# Altium footprint library HSBNE-Vend.PcbLib: 36 footprints (part 2 of 3)
Each footprint in its own frame and in the unit in brackets; x right, y up, seen from the top. Pads: shape width x height; smd on the part's side, far side on the other; paste and mask are expansions set on the pad; w line width, h text height; cw(c..) or ccw(c..) is an arc to the next point about the centre after c.
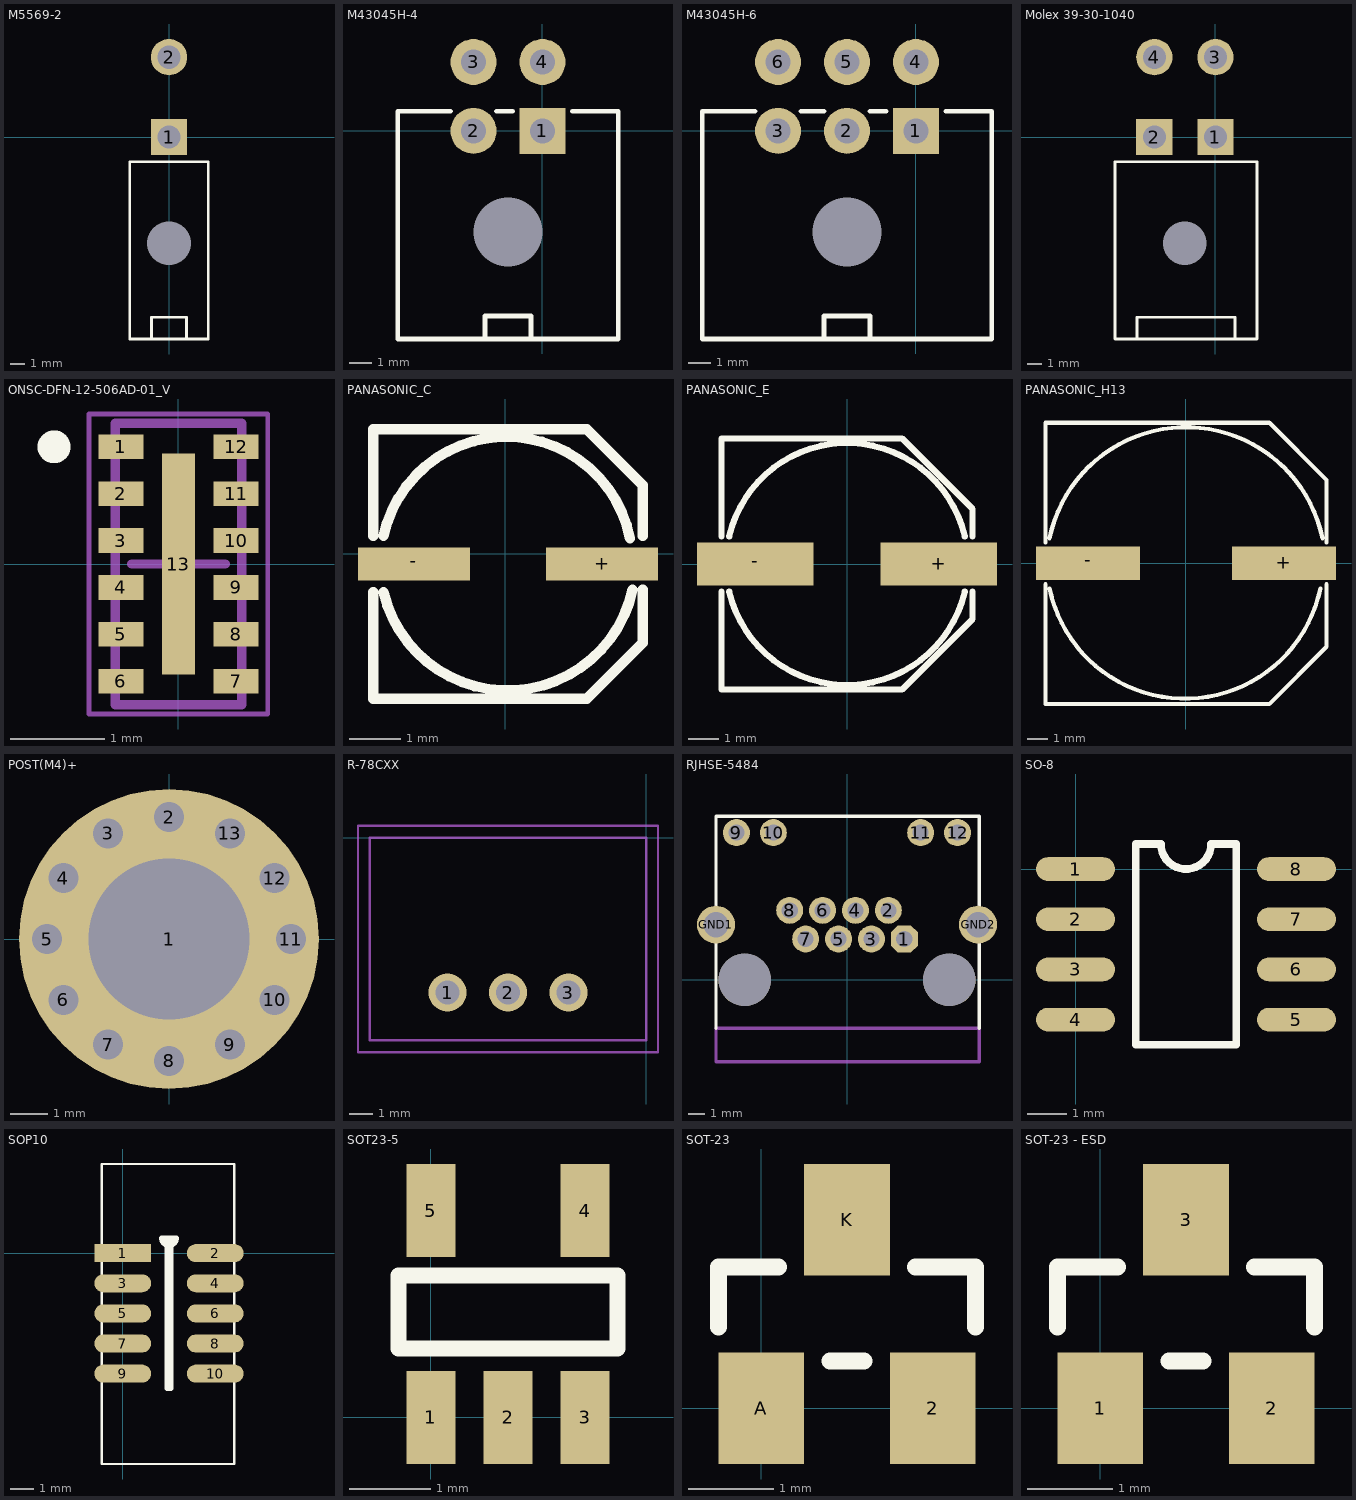
[diagram p1: the footprints below, top view; thin cyan lines are the x and y axes]

## M5569-2 [mm]
pads (3):
  rect 2.5x2.5 hole 1.6: 1(0,0)
  round 2.5 hole 1.6: 2(0,5.5)
  round 0 hole 3 unplated: A(0,-7.3)
Top Overlay:
  lines w0.2: -1.2,-13.9 -1.2,-12.4 1.2,-12.4 1.2,-13.9 ; -2.7,-13.9 -2.7,-1.7 2.7,-1.7 2.7,-13.9 -2.7,-13.9
3D body "039301020.stp": height 11.4, standoff -3.6, extent -2.72,-13.907 3.08,6.028

## M43045H-4 [mm]
height 1
pads (5):
  rect 2x2 hole 1.1: 1(0,0)
  round 2 hole 1.1: 2(-3,0) 3(-3,3) 4(0,3)
  round 0 hole 3 unplated: 5(-1.5,-4.4)
Top Overlay:
  lines w0.2: -4,0.85 -6.3,0.85 -6.3,-9.05 3.3,-9.05 3.3,0.85 1.3,0.85 ; -2.5,-9.05 -2.5,-8.05 -0.5,-8.05 -0.5,-9.05 ; -2,0.85 -1.3,0.85
3D body "430450400.stp": height 8.83, standoff -3.12, extent -6.6,-8.9 3.55,3.3

## M43045H-6 [mm]
pads (7):
  rect 2x2 hole 1.1: 1(0,0)
  round 2 hole 1.1: 2(-3,0) 3(-6,0) 4(0,3) 5(-3,3) 6(-6,3)
  round 0 hole 3 unplated: 7(-3,-4.4)
Top Overlay:
  lines w0.2: -7,0.85 -9.3,0.85 -9.3,-9.05 3.3,-9.05 3.3,0.85 1.3,0.85 ; -5,0.85 -4,0.85 ; -4,-9.05 -4,-8.05 -2,-8.05 -2,-9.05 ; -2,0.85 -1.3,0.85
3D body "430450600.stp": height 8.83, standoff -3.12, extent -9.575,-8.95 3.575,3.25

## Molex 39-30-1040 [mm]
pads (5):
  rect 2.5x2.5 hole 1.6: 1(0,0) 2(-4.2,0)
  round 2.5 hole 1.6: 3(0,5.5) 4(-4.2,5.5)
  round 0 hole 3 unplated: A(-2.1,-7.3)
Top Overlay:
  lines w0.2: -5.4,-13.9 -5.4,-12.4 -3,-12.4 1.351,-12.4 1.351,-13.9 ; -2.549,-13.9 2.851,-13.9 2.851,-1.7 -2.549,-1.7 ; -1.5,-13.9 -6.9,-13.9 -6.9,-1.7 -1.5,-1.7
3D body "039301040.stp": height 11.4, standoff -3.6, extent -6.961,-13.904 3.039,6.03

## ONSC-DFN-12-506AD-01_V [mm] "SON, 12-Leads, Body 3x1.35mm, Pitch 0.5mm, Thermal Pad 2.352x0.351mm"
height 1
pads (13):
  rect 0.479x0.265 smd mask+0.05: 1(-0.614,1.25) 2(-0.614,0.75) 3(-0.614,0.25) 4(-0.614,-0.25) 5(-0.614,-0.75) 6(-0.614,-1.25) 7(0.614,-1.25) 8(0.614,-0.75) 9(0.614,-0.25) 10(0.614,0.25) 11(0.614,0.75) 12(0.614,1.25)
  rect 0.351x2.352 smd mask+0.05: 13(0,0)
Top Overlay:
  circle w0.25: c-1.328,1.25 r0.05
Mechanical 13:
  lines w0.1: -0.675,-1.5 0.675,-1.5 0.675,1.5 -0.675,1.5 -0.675,-1.5
Mechanical 15:
  lines w0.05: -0.954,-1.6 0.954,-1.6 0.954,1.6 -0.954,1.6 -0.954,-1.6
  lines w0.1: -0.5,0 0.5,0 ; 0,-0.5 0,0.5
3D body: height 1, standoff 0, extent -0.675,-1.5 0.675,1.5

## PANASONIC_C [mm]
pads (2):
  rect 2.2x0.65 smd: +(1.9,-0.2) -(-1.8,-0.2)
Top Overlay:
  lines w0.102: -2.6,-2.85 1.6,-2.85 2.7,-1.75 ; -2.6,2.45 1.6,2.45 2.7,1.35
  lines w0.203: -2.6,-0.75 -2.6,-2.85 1.6,-2.85 2.7,-1.75 2.7,-0.7 ; -2.6,0.35 -2.6,2.45 1.6,2.45 2.7,1.35 2.7,0.35 ; -2.4,-0.75 ccw(c0.044,-0.175) 2.5,-0.7 ; -2.4,0.35 cw(c0.02,-0.175) 2.45,0.3
3D body: height 5.4, standoff 0, extent -2.475,-2.724 2.525,2.274
3D body: height 1, standoff 0, extent -2.625,-2.875 2.75,2.5

## PANASONIC_E [mm]
pads (2):
  rect 3.8x1.4 smd: +(3,0) -(-3,0)
Top Overlay:
  lines w0.102: -4.1,-4.1 1.8,-4.1 4.1,-1.8 ; -4.1,4.1 1.8,4.1 4.1,1.8
  lines w0.203: -4.1,-0.9 -4.1,-4.1 1.8,-4.1 4.1,-1.8 4.1,-0.9 ; -4.1,0.9 -4.1,4.1 1.8,4.1 4.1,1.8 4.1,0.9 ; -3.85,-0.9 ccw(c0,0) 3.85,-0.9 ; -3.85,0.9 cw(c0,0) 3.85,0.9
3D body: height 1, standoff 0, extent -4.125,-4.125 4.15,4.15
3D body: height 6.2, standoff 0, extent -4.025,-3.999 3.975,3.999

## PANASONIC_H13 [mm]
pads (2):
  rect 5x1.6 smd: +(4.7,0) -(-4.7,0)
Top Overlay:
  lines w0.102: -6.75,-6.75 4,-6.75 6.75,-4 ; -6.75,6.75 4,6.75 6.75,4
  lines w0.203: -6.75,-1 -6.75,-6.75 4,-6.75 6.75,-4 6.75,-1 ; -6.75,1 -6.75,6.75 4,6.75 6.75,4 6.75,1 ; -6.55,-1.2 ccw(c-0.05,0.14) 6.45,-1.2 ; -6.55,1.2 cw(c0,-0.151) 6.55,1.2
3D body: height 1, standoff 0, extent -6.75,-6.75 6.75,6.75
3D body: height 13.5, standoff 0, extent -6.375,-6.223 6.125,6.274

## POST(M4)+ [mm]
pads (13):
  round 8 hole 4.3: 1(0,0)
  round 0.8 hole 0.8: 2(0,3.25) 3(-1.625,2.815) 4(-2.815,1.625) 5(-3.25,0) 6(-2.815,-1.625) 7(-1.625,-2.815) 8(0,-3.25) 9(1.625,-2.815) 10(2.815,-1.625) 11(3.25,0) 12(2.815,1.625) 13(1.625,2.815)

## R-78CXX [mm] "CONV DC/DC 1A 5V OUT SIP VERT"
height 10.4
pads (3):
  round 1.6 hole 1: 1(-8.34,-6.5) 2(-5.8,-6.5) 3(-3.26,-6.5)
Mechanical 13:
  lines w0.1: -11.6,-8.5 -11.6,0 0,0 0,-8.5 -11.6,-8.5
Mechanical 15:
  lines w0.1: -12.1,-9 -12.1,0.5 0.5,0.5 0.5,-9 -12.1,-9
3D body: height 13, standoff 0, extent -11.6,-8.5 0,0

## RJHSE-5484 [mm]
pads (16):
  oct 1.676x1.676 hole 1: 1(3.555,2.54)
  round 1.676 hole 1: 2(2.565,4.32) 3(1.515,2.54) 4(0.525,4.32) 5(-0.525,2.54) 6(-1.515,4.32) 7(-2.565,2.54) 8(-3.555,4.32) 9(-6.86,9.14) 10(-4.57,9.14) 11(4.57,9.14) 12(6.86,9.14)
  round 2.355 hole 1.57: GND1(-8.13,3.43) GND2(8.13,3.43)
  round 3.25 hole 3.25 unplated: ""(-6.35,0) ""(6.35,0)
Top Overlay:
  lines w0.203: -8.13,-3 -8.13,10.16 8.2,10.16 8.2,-3
Mechanical 2:
  lines w0.203: -8.13,-5.08 8.2,-5.08 8.2,-3 -8.13,-3 -8.13,-5.08
3D body "User Library-User Library-Rj45-1.STEP": height 14.75, standoff -3.68, extent -8.355,-5.961 8.355,10.289

## SO-8 [mm]
pads (8):
  oval 2x0.6 smd: 1(0,0) 2(0,-1.27) 3(0,-2.54) 4(0,-3.81) 5(5.588,-3.81) 6(5.588,-2.54) 7(5.588,-1.27) 8(5.588,0)
Top Overlay:
  lines w0.2: 1.524,-4.445 4.064,-4.445 4.064,0.635 3.429,0.635 cw(c2.794,0.635) 2.159,0.635 1.524,0.635 1.524,-4.445
3D body "CircuitWorks-SO-8.step": height 1.45, standoff 0, extent -0.095,-4.318 5.683,0.584

## SOP10 [mm]
pads (10):
  rect 2.4x0.76 smd: 1(0,0)
  oval 2.4x0.76 smd: 2(3.9,0) 3(0,-1.27) 4(3.9,-1.27) 5(0,-2.54) 6(3.9,-2.54) 7(0,-3.81) 8(3.9,-3.81) 9(0,-5.08) 10(3.9,-5.08)
Top Overlay:
  lines w0.1: -0.889,-8.89 4.699,-8.89 4.699,3.76 -0.889,3.76 -0.889,-8.89
  lines w0.2: 1.632,0.635 ccw(c1.95,0.635) 2.267,0.635 1.865,0.635 1.865,-5.715 2.035,-5.715 2.035,0.635 1.632,0.635
3D body "Samtec-TFM-105-02-X-D.STEP": height 5.59, standoff -0.15, extent -1.143,-7.239 4.826,2.286

## SOT23-5 [mm]
pads (5):
  rect 0.6x1.15 smd: 1(0,0) 2(0.95,0) 3(1.9,0) 4(1.9,2.55) 5(0,2.55)
Top Overlay:
  lines w0.2: -0.4,0.85 2.3,0.85 2.3,1.75 -0.4,1.75 -0.4,0.85

## SOT-23 [mm]
pads (3):
  rect 1x1.3 smd: 2(2,0) A(0,0) K(1,2.2)
Top Overlay:
  lines w0.2: -0.5,0.95 -0.5,1.65 0.2,1.65 ; 0.8,0.55 1.2,0.55 ; 1.8,1.65 2.5,1.65 2.5,0.95

## SOT-23 - ESD [mm]
pads (3):
  rect 1x1.3 smd: 1(0,0) 2(2,0) 3(1,2.2)
Top Overlay:
  lines w0.2: -0.5,0.95 -0.5,1.65 0.2,1.65 ; 0.8,0.55 1.2,0.55 ; 1.8,1.65 2.5,1.65 2.5,0.95
3D body: height 1, standoff 0, extent -0.635,0.508 2.54,1.778